# Altium footprint library Joystiks.PcbLib: 1 footprints
Each footprint in its own frame and in the unit in brackets; x right, y up, seen from the top. Pads: shape width x height; smd on the part's side, far side on the other; paste and mask are expansions set on the pad; w line width, h text height; cw(c..) or ccw(c..) is an arc to the next point about the centre after c.
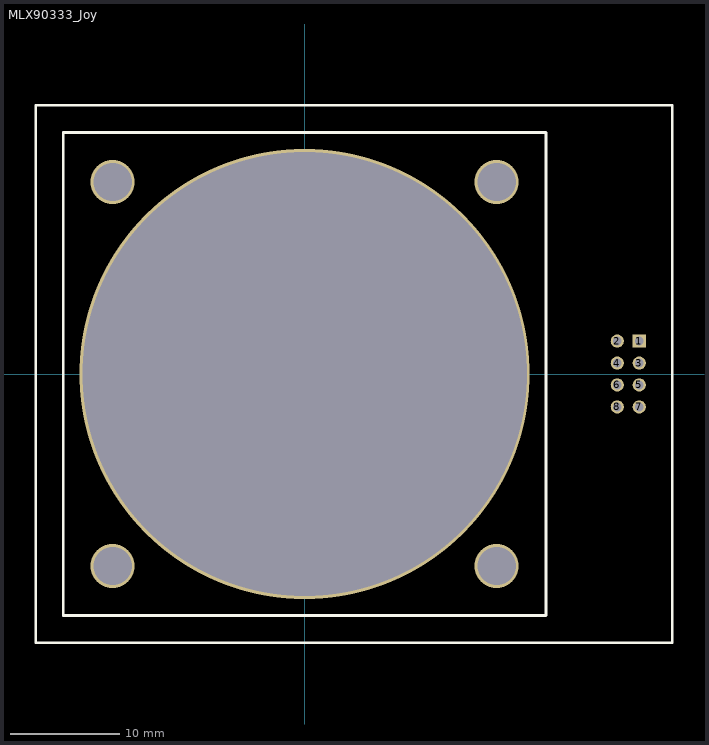
[diagram p0: the footprint, top view; thin cyan lines are the x and y axes]

## MLX90333_Joy [mm]
pads (8):
  rect 1.2x1.2 hole 0.8: 1(30.5,3)
  round 1.2 hole 0.8: 2(28.5,3) 3(30.5,1) 4(28.5,1) 5(30.5,-1) 6(28.5,-1) 7(30.5,-3) 8(28.5,-3)
via 0,0 diameter 41 hole 40.5
via -17.5,-17.5 diameter 4 hole 3.5
via 17.5,-17.5 diameter 4 hole 3.5
via 17.5,17.5 diameter 4 hole 3.5
via -17.5,17.5 diameter 4 hole 3.5
Top Overlay:
  lines w0.254: -24.5,-24.5 33.5,-24.5 33.5,24.5 -24.5,24.5 -24.5,-24.5 ; -22,-22 22,-22 22,22 -22,22 -22,-22
Bottom Overlay:
  lines w0.254: 31,4 31.5,4 ; 27,-4 32,-4 32,4.5 27,4.5 27,-4